# Altium schematic symbol library Schlib_Orbita.SchLib: 2 symbols
Pins are listed as number, name and electrical type; pins without a type are passive.

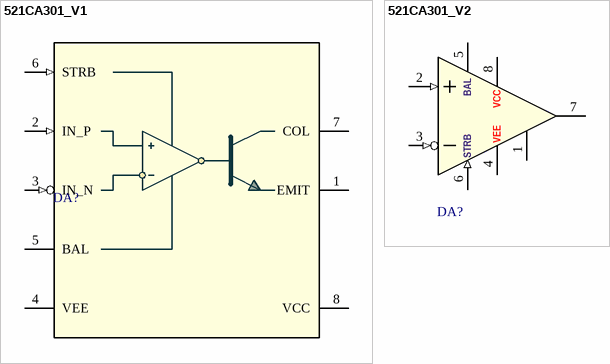
[diagram p0: symbols 521СА301_V1 to 521СА301_V2]

## 521СА301_V1
designator DA?, comment 521СА301  (value not drawn)
DIFFERENTIAL COMPARATORS WITH STROBES; Manufacturer: ОАО "Орбита"; ТУ: бК0.347.015 ТУ2/02; Part Number: 521СА301; Package: 3101.8-8.01; Author: Sklyarov
footprint 3101.8-8.01
pins: 1 EMIT, 2 IN_P (in), 3 IN_N (in), 4 VEE (power), 5 BAL, 6 STRB (in), 7 COL, 8 VCC (power)

## 521СА301_V2
designator DA?, comment 521СА301  (value not drawn)
DIFFERENTIAL COMPARATORS WITH STROBES; Manufacturer: ОАО "Орбита"; ТУ: бК0.347.015 ТУ2/02; Part Number: 521СА301; Package: 3101.8-8.01; Author: Sklyarov
footprint 3101.8-8.01
pins: 1 EMIT, 2 IN_P (in), 3 IN_N (in), 4 VEE (power), 5 BAL, 6 STRB (in), 7 COL, 8 VCC (power)